# Altium footprint library ECSlib.PcbLib: 62 footprints (part 3 of 4)
Each footprint in its own frame and in the unit in brackets; x right, y up, seen from the top. Pads: shape width x height; smd on the part's side, far side on the other; paste and mask are expansions set on the pad; w line width, h text height; cw(c..) or ccw(c..) is an arc to the next point about the centre after c.
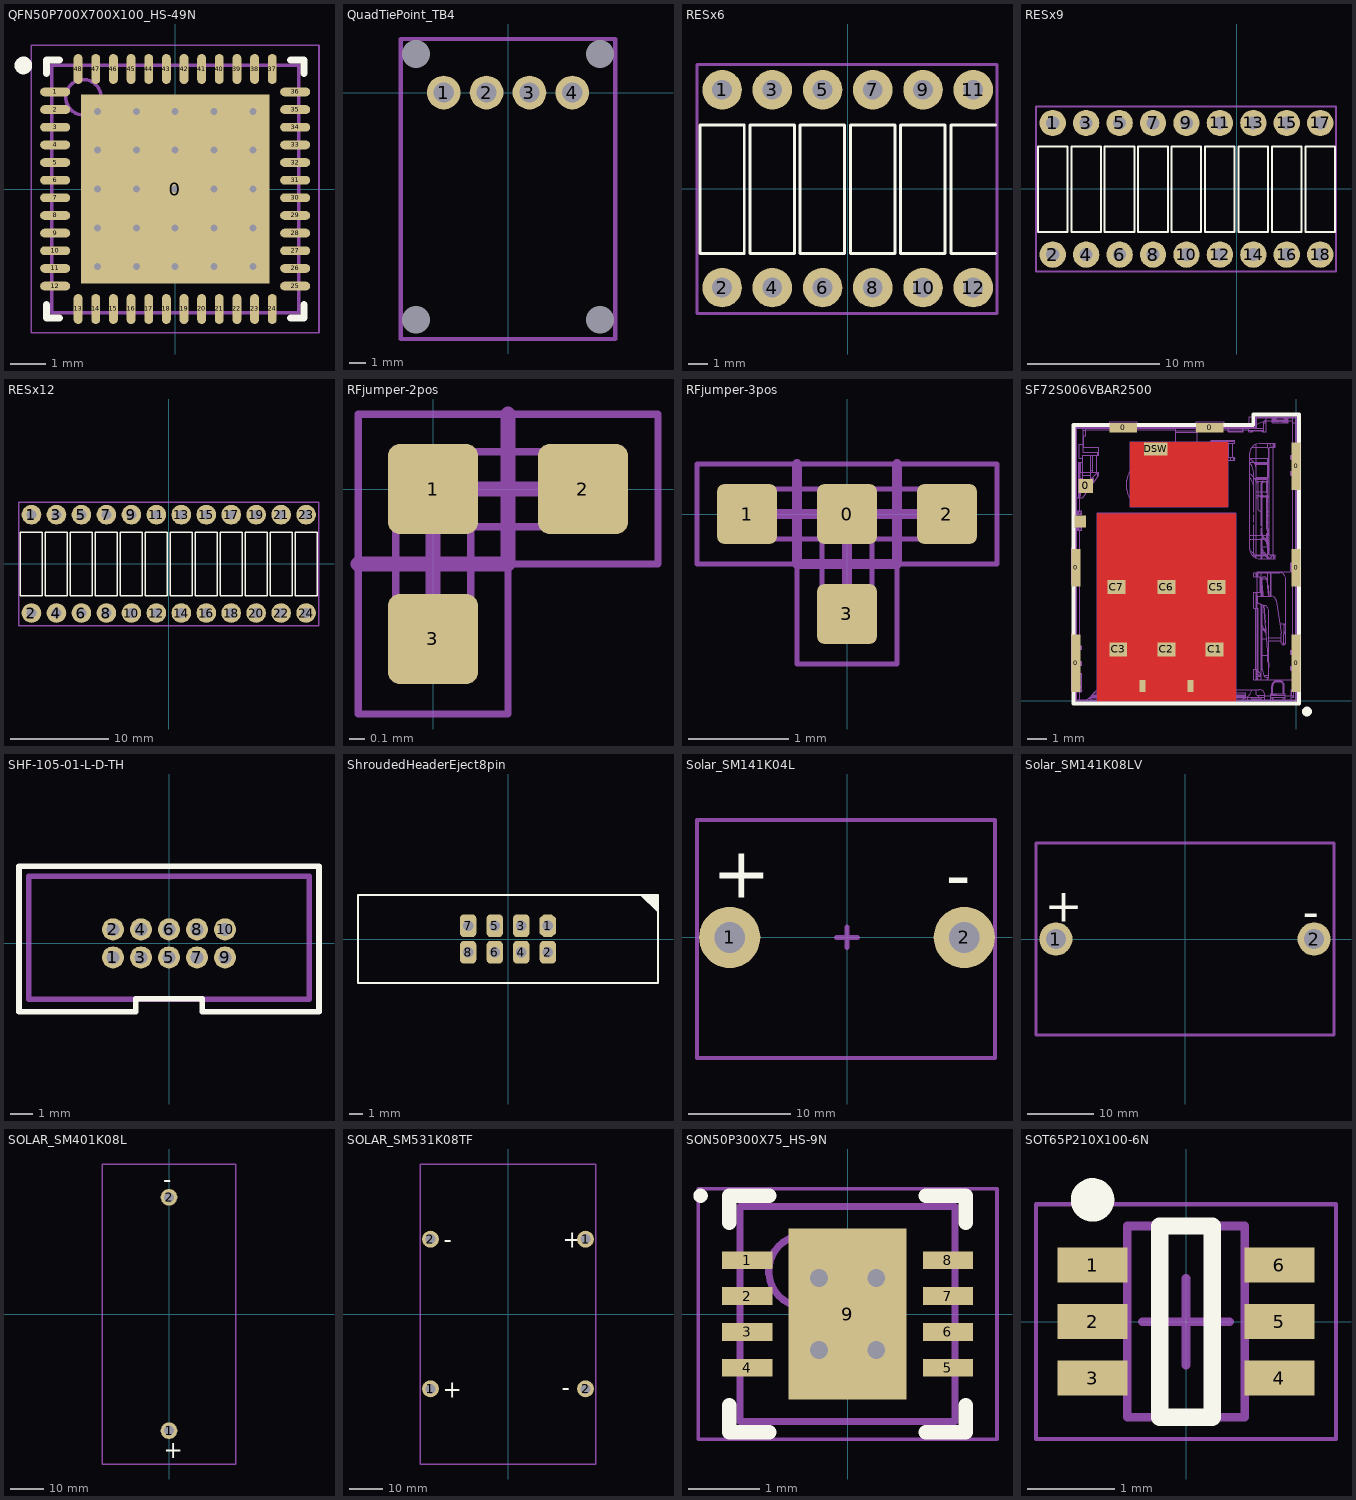
[diagram p2: the footprints below, top view; thin cyan lines are the x and y axes]

## QFN50P700X700X100_HS-49N [mm] "QFN, 48-Leads, Body 7.00x7.00mm, Pitch 0.50mm, Thermal Pad 5.35x5.35mm, IPC Medium Density"
height 1
pads (49):
  rect 5.35x5.35 smd: 0(0,0)
  oval 0.85x0.25 smd: 1(-3.4,2.75) 2(-3.4,2.25) 3(-3.4,1.75) 4(-3.4,1.25) 5(-3.4,0.75) 6(-3.4,0.25) 7(-3.4,-0.25) 8(-3.4,-0.75) 9(-3.4,-1.25) 10(-3.4,-1.75) 11(-3.4,-2.25) 12(-3.4,-2.75) 25(3.4,-2.75) 26(3.4,-2.25) 27(3.4,-1.75) 28(3.4,-1.25) 29(3.4,-0.75) 30(3.4,-0.25) 31(3.4,0.25) 32(3.4,0.75) 33(3.4,1.25) 34(3.4,1.75) 35(3.4,2.25) 36(3.4,2.75)
  oval 0.25x0.85 smd: 13(-2.75,-3.4) 14(-2.25,-3.4) 15(-1.75,-3.4) 16(-1.25,-3.4) 17(-0.75,-3.4) 18(-0.25,-3.4) 19(0.25,-3.4) 20(0.75,-3.4) 21(1.25,-3.4) 22(1.75,-3.4) 23(2.25,-3.4) 24(2.75,-3.4) 37(2.75,3.4) 38(2.25,3.4) 39(1.75,3.4) 40(1.25,3.4) 41(0.75,3.4) 42(0.25,3.4) 43(-0.25,3.4) 44(-0.75,3.4) 45(-1.25,3.4) 46(-1.75,3.4) 47(-2.25,3.4) 48(-2.75,3.4)
via 2.2,-2.2 diameter 0.5 hole 0.2
via 1.1,-2.2 diameter 0.5 hole 0.2
via 0,-2.2 diameter 0.5 hole 0.2
via -1.1,-2.2 diameter 0.5 hole 0.2
via -2.2,-2.2 diameter 0.5 hole 0.2
via 2.2,-1.1 diameter 0.5 hole 0.2
via 1.1,-1.1 diameter 0.5 hole 0.2
via 0,-1.1 diameter 0.5 hole 0.2
via -1.1,-1.1 diameter 0.5 hole 0.2
via -2.2,-1.1 diameter 0.5 hole 0.2
via 2.2,0 diameter 0.5 hole 0.2
via 1.1,0 diameter 0.5 hole 0.2
via 0,0 diameter 0.5 hole 0.2
via -1.1,0 diameter 0.5 hole 0.2
via -2.2,0 diameter 0.5 hole 0.2
via 2.2,1.1 diameter 0.5 hole 0.2
via 1.1,1.1 diameter 0.5 hole 0.2
via 0,1.1 diameter 0.5 hole 0.2
via -1.1,1.1 diameter 0.5 hole 0.2
via -2.2,1.1 diameter 0.5 hole 0.2
via 2.2,2.2 diameter 0.5 hole 0.2
via 1.1,2.2 diameter 0.5 hole 0.2
via 0,2.2 diameter 0.5 hole 0.2
via -1.1,2.2 diameter 0.5 hole 0.2
via -2.2,2.2 diameter 0.5 hole 0.2
Top Overlay:
  circle w0.25: c-4.3,3.5 r0.125
  lines w0.2: -3.65,-3.275 -3.65,-3.65 -3.275,-3.65 ; -3.65,3.275 -3.65,3.65 -3.275,3.65 ; 3.275,-3.65 3.65,-3.65 3.65,-3.275 ; 3.275,3.65 3.65,3.65 3.65,3.275
Assembly Top:
  circle w0.1: c-2.6,2.6 r0.5
  lines w0.1: -3.5,-3.5 3.5,-3.5 3.5,3.5 -3.5,3.5 -3.5,-3.5
Courtyard Top:
  lines w0.05: -4.075,-4.075 4.075,-4.075 4.075,4.075 -4.075,4.075 -4.075,-4.075
  lines w0.1: -0.5,0 0.5,0 ; 0,-0.5 0,0.5
3D body: height 1, standoff 0.08, extent -3.5,-3.5 3.5,3.5

## QuadTiePoint_TB4 [mm] "Solderless breadboard tiepoint"
pads (8):
  round 0 hole 1.65 unplated: 0(-5.461,-13.462) 0(-5.461,2.286) 0(5.461,-13.462) 0(5.461,2.286)
  round 2 hole 1.2: 1(-3.81,0) 2(-1.27,0) 3(1.27,0) 4(3.81,0)
3D Body Top:
  lines w0.25: -6.35,-14.605 -6.35,3.175 6.35,3.175 6.35,-14.605 -6.35,-14.605
3D body: height 0, standoff 0, extent 5.461,2.286 5.461,2.286
3D body: height 0, standoff 0, extent 5.461,-13.462 5.461,-13.462
3D body: height 0, standoff 0, extent -5.461,-13.462 -5.461,-13.462
3D body: height 0, standoff 0, extent -5.461,2.286 -5.461,2.286
3D body: height 8.3, standoff 0, extent -6.35,-14.605 6.35,3.175

## RESx6 [mm]
pads (12):
  round 2 hole 1: 1(-6.35,5) 2(-6.35,-5) 3(-3.81,5) 4(-3.81,-5) 5(-1.27,5) 6(-1.27,-5) 7(1.27,5) 8(1.27,-5) 9(3.81,5) 10(3.81,-5) 11(6.35,5) 12(6.35,-5)
Top Overlay:
  lines w0.15: 7.47,-3.27 5.22,-3.27 5.22,3.23 7.47,3.23 ; -7.48,-3.27 -5.23,-3.27 -5.23,3.23 -7.48,3.23 -7.48,-3.27 ; -4.94,-3.27 -2.69,-3.27 -2.69,3.23 -4.94,3.23 -4.94,-3.27 ; -2.4,-3.27 -0.15,-3.27 -0.15,3.23 -2.4,3.23 -2.4,-3.27 ; 0.14,-3.27 2.39,-3.27 2.39,3.23 0.14,3.23 0.14,-3.27 ; 2.68,-3.27 4.93,-3.27 4.93,3.23 2.68,3.23 2.68,-3.27
Mechanical 13:
  lines w0.15: -7.62,-6.3 7.55,-6.3 7.55,6.27 -7.62,6.27 -7.62,-6.3
3D body: height 4.2, standoff 0, extent -7.62,-6.3 7.64,-3.73
3D body: height 4.21, standoff 0, extent 5.6,-5.75 7.1,-4.25
3D body: height 0, standoff -2.5, extent 6.05,-5.3 6.65,-4.7
3D body: height 4.21, standoff 0, extent 3.06,-5.75 4.56,-4.25
3D body: height 0, standoff -2.5, extent 3.51,-5.3 4.11,-4.7
3D body: height 0, standoff -2.5, extent 0.97,-5.3 1.57,-4.7
3D body: height 4.21, standoff 0, extent 0.52,-5.75 2.02,-4.25
3D body: height 0, standoff -2.5, extent -1.57,-5.3 -0.97,-4.7
3D body: height 4.21, standoff 0, extent -4.56,-5.75 -3.06,-4.25
3D body: height 4.21, standoff 0, extent -2.02,-5.75 -0.52,-4.25
3D body: height 0, standoff -2.5, extent -4.11,-5.3 -3.51,-4.7
3D body: height 0, standoff -2.5, extent -6.65,-5.3 -6.05,-4.7
3D body: height 0, standoff -2.5, extent -6.65,4.7 -6.05,5.3
3D body: height 4.21, standoff 0, extent -7.1,4.25 -5.6,5.75
3D body: height 4.21, standoff 0, extent -7.1,-5.75 -5.6,-4.25
3D body: height 4.2, standoff 0, extent -7.62,3.7 7.64,6.27
3D body: height 0, standoff -2.5, extent 6.05,4.7 6.65,5.3
3D body: height 4.21, standoff 0, extent 3.06,4.25 4.56,5.75
3D body: height 0, standoff -2.5, extent 3.51,4.7 4.11,5.3
3D body: height 4.21, standoff 0, extent 5.6,4.25 7.1,5.75
3D body: height 4.21, standoff 0, extent 0.52,4.25 2.02,5.75
3D body: height 0, standoff -2.5, extent -1.57,4.7 -0.97,5.3
3D body: height 4.21, standoff 0, extent -2.02,4.25 -0.52,5.75
3D body: height 4.21, standoff 0, extent -4.56,4.25 -3.06,5.75
3D body: height 0, standoff -2.5, extent -4.11,4.7 -3.51,5.3
3D body: height 0, standoff -2.5, extent 0.97,4.7 1.57,5.3
3D body "User Library-Res40-Axial 0_25W-1K.step": height 6.91, standoff 2.5, extent -7.55,-5.4 -5.15,5.36
3D body "User Library-Res40-Axial 0_25W-1K.step": height 6.91, standoff 2.5, extent -5.01,-5.4 -2.61,5.36
3D body "User Library-Res40-Axial 0_25W-1K.step": height 6.91, standoff 2.5, extent -2.47,-5.4 -0.07,5.36
3D body "User Library-Res40-Axial 0_25W-1K.step": height 6.91, standoff 2.5, extent 0.07,-5.4 2.47,5.36
3D body "User Library-Res40-Axial 0_25W-1K.step": height 6.91, standoff 2.5, extent 2.61,-5.4 5.01,5.36
3D body "User Library-Res40-Axial 0_25W-1K.step": height 6.91, standoff 2.5, extent 5.15,-5.4 7.55,5.36

## RESx9 [mm]
pads (18):
  round 2 hole 1: 1(-13.97,5) 2(-13.97,-5) 3(-11.43,5) 4(-11.43,-5) 5(-8.89,5) 6(-8.89,-5) 7(-6.35,5) 8(-6.35,-5) 9(-3.81,5) 10(-3.81,-5) 11(-1.27,5) 12(-1.27,-5) 13(1.27,5) 14(1.27,-5) 15(3.81,5) 16(3.81,-5) 17(6.35,5) 18(6.35,-5)
Top Overlay:
  lines w0.15: -15.1,-3.27 -12.85,-3.27 -12.85,3.23 -15.1,3.23 -15.1,-3.27 ; -12.56,-3.27 -10.31,-3.27 -10.31,3.23 -12.56,3.23 -12.56,-3.27 ; -10.02,-3.27 -7.77,-3.27 -7.77,3.23 -10.02,3.23 -10.02,-3.27 ; -7.48,-3.27 -5.23,-3.27 -5.23,3.23 -7.48,3.23 -7.48,-3.27 ; -4.94,-3.27 -2.69,-3.27 -2.69,3.23 -4.94,3.23 -4.94,-3.27 ; -2.4,-3.27 -0.15,-3.27 -0.15,3.23 -2.4,3.23 -2.4,-3.27 ; 0.14,-3.27 2.39,-3.27 2.39,3.23 0.14,3.23 0.14,-3.27 ; 2.68,-3.27 4.93,-3.27 4.93,3.23 2.68,3.23 2.68,-3.27 ; 5.22,-3.27 7.47,-3.27 7.47,3.23 5.22,3.23 5.22,-3.27
Mechanical 13:
  lines w0.15: -15.24,-6.3 7.55,-6.3 7.55,6.27 -15.24,6.27 -15.24,-6.3
3D body: height 4.21, standoff 0, extent 5.6,4.25 7.1,5.75
3D body: height 0, standoff -2.5, extent 6.05,4.7 6.65,5.3
3D body: height 4.21, standoff 0, extent 3.06,-5.75 4.56,-4.25
3D body: height 0, standoff -2.5, extent 0.97,-5.3 1.57,-4.7
3D body: height 4.21, standoff 0, extent 0.52,-5.75 2.02,-4.25
3D body: height 4.21, standoff 0, extent -2.02,-5.75 -0.52,-4.25
3D body: height 0, standoff -2.5, extent -1.57,-5.3 -0.97,-4.7
3D body: height 4.21, standoff 0, extent -4.56,-5.75 -3.06,-4.25
3D body: height 0, standoff -2.5, extent -4.11,-5.3 -3.51,-4.7
3D body: height 0, standoff -2.5, extent -6.65,-5.3 -6.05,-4.7
3D body: height 4.21, standoff 0, extent -7.1,-5.75 -5.6,-4.25
3D body: height 0, standoff -2.5, extent -9.19,-5.3 -8.59,-4.7
3D body: height 4.21, standoff 0, extent -12.18,-5.75 -10.68,-4.25
3D body: height 4.21, standoff 0, extent -9.64,-5.75 -8.14,-4.25
3D body: height 0, standoff -2.5, extent -11.73,-5.3 -11.13,-4.7
3D body: height 0, standoff -2.5, extent -14.27,-5.3 -13.67,-4.7
3D body: height 0, standoff -2.5, extent -14.27,4.7 -13.67,5.3
3D body: height 4.21, standoff 0, extent -14.72,4.25 -13.22,5.75
3D body: height 4.21, standoff 0, extent -14.72,-5.75 -13.22,-4.25
3D body: height 4.21, standoff 0, extent 5.6,-5.75 7.1,-4.25
3D body: height 0, standoff -2.5, extent 6.05,-5.3 6.65,-4.7
3D body: height 0, standoff -2.5, extent 3.51,-5.3 4.11,-4.7
3D body: height 4.21, standoff 0, extent 0.52,4.25 2.02,5.75
3D body: height 0, standoff -2.5, extent -1.57,4.7 -0.97,5.3
3D body: height 0, standoff -2.5, extent 0.97,4.7 1.57,5.3
3D body: height 4.21, standoff 0, extent 3.06,4.25 4.56,5.75
3D body: height 4.21, standoff 0, extent -4.56,4.25 -3.06,5.75
3D body: height 0, standoff -2.5, extent -4.11,4.7 -3.51,5.3
3D body: height 4.21, standoff 0, extent -2.02,4.25 -0.52,5.75
3D body: height 0, standoff -2.5, extent 3.51,4.7 4.11,5.3
3D body: height 4.21, standoff 0, extent -7.1,4.25 -5.6,5.75
3D body: height 0, standoff -2.5, extent -9.19,4.7 -8.59,5.3
3D body: height 4.21, standoff 0, extent -9.64,4.25 -8.14,5.75
3D body: height 4.21, standoff 0, extent -12.18,4.25 -10.68,5.75
3D body: height 0, standoff -2.5, extent -11.73,4.7 -11.13,5.3
3D body: height 0, standoff -2.5, extent -6.65,4.7 -6.05,5.3
3D body "User Library-Res40-Axial 0_25W-1K.step": height 6.91, standoff 2.5, extent -15.17,-5.4 -12.77,5.36
3D body "User Library-Res40-Axial 0_25W-1K.step": height 6.91, standoff 2.5, extent -12.63,-5.4 -10.23,5.36
3D body "User Library-Res40-Axial 0_25W-1K.step": height 6.91, standoff 2.5, extent -10.09,-5.4 -7.69,5.36
3D body "User Library-Res40-Axial 0_25W-1K.step": height 6.91, standoff 2.5, extent -7.55,-5.4 -5.15,5.36
3D body "User Library-Res40-Axial 0_25W-1K.step": height 6.91, standoff 2.5, extent -5.01,-5.4 -2.61,5.36
3D body "User Library-Res40-Axial 0_25W-1K.step": height 6.91, standoff 2.5, extent -2.47,-5.4 -0.07,5.36
3D body "User Library-Res40-Axial 0_25W-1K.step": height 6.91, standoff 2.5, extent 0.07,-5.4 2.47,5.36
3D body "User Library-Res40-Axial 0_25W-1K.step": height 6.91, standoff 2.5, extent 2.61,-5.4 5.01,5.36
3D body: height 4.2, standoff 0, extent -15.24,-6.3 7.55,-3.73
3D body: height 4.2, standoff 0, extent -15.24,3.7 7.55,6.27
3D body "User Library-Res40-Axial 0_25W-1K.step": height 6.91, standoff 2.5, extent 5.15,-5.4 7.55,5.36

## RESx12 [mm]
pads (24):
  round 2 hole 1: 1(-13.97,5) 2(-13.97,-5) 3(-11.43,5) 4(-11.43,-5) 5(-8.89,5) 6(-8.89,-5) 7(-6.35,5) 8(-6.35,-5) 9(-3.81,5) 10(-3.81,-5) 11(-1.27,5) 12(-1.27,-5) 13(1.27,5) 14(1.27,-5) 15(3.81,5) 16(3.81,-5) 17(6.35,5) 18(6.35,-5) 19(8.89,5) 20(8.89,-5) 21(11.43,5) 22(11.43,-5) 23(13.97,5) 24(13.97,-5)
Top Overlay:
  lines w0.15: -15.1,-3.27 -12.85,-3.27 -12.85,3.23 -15.1,3.23 -15.1,-3.27 ; -12.56,-3.27 -10.31,-3.27 -10.31,3.23 -12.56,3.23 -12.56,-3.27 ; -10.02,-3.27 -7.77,-3.27 -7.77,3.23 -10.02,3.23 -10.02,-3.27 ; -7.48,-3.27 -5.23,-3.27 -5.23,3.23 -7.48,3.23 -7.48,-3.27 ; -4.94,-3.27 -2.69,-3.27 -2.69,3.23 -4.94,3.23 -4.94,-3.27 ; -2.4,-3.27 -0.15,-3.27 -0.15,3.23 -2.4,3.23 -2.4,-3.27 ; 0.14,-3.27 2.39,-3.27 2.39,3.23 0.14,3.23 0.14,-3.27 ; 2.68,-3.27 4.93,-3.27 4.93,3.23 2.68,3.23 2.68,-3.27 ; 5.22,-3.27 7.47,-3.27 7.47,3.23 5.22,3.23 5.22,-3.27 ; 7.76,-3.27 10.01,-3.27 10.01,3.23 7.76,3.23 7.76,-3.27 ; 10.3,-3.27 12.55,-3.27 12.55,3.23 10.3,3.23 10.3,-3.27 ; 12.84,-3.27 15.09,-3.27 15.09,3.23 12.84,3.23 12.84,-3.27
Mechanical 13:
  lines w0.15: -15.24,-6.3 -15.24,6.27 15.28,6.27 15.28,-6.3 -15.24,-6.3
3D body: height 4.21, standoff 0, extent 5.6,4.25 7.1,5.75
3D body: height 0, standoff -2.5, extent 6.05,4.7 6.65,5.3
3D body: height 4.21, standoff 0, extent 3.06,-5.75 4.56,-4.25
3D body: height 0, standoff -2.5, extent 0.97,-5.3 1.57,-4.7
3D body: height 4.21, standoff 0, extent 0.52,-5.75 2.02,-4.25
3D body: height 4.21, standoff 0, extent -2.02,-5.75 -0.52,-4.25
3D body: height 0, standoff -2.5, extent -1.57,-5.3 -0.97,-4.7
3D body: height 4.21, standoff 0, extent -4.56,-5.75 -3.06,-4.25
3D body: height 0, standoff -2.5, extent -4.11,-5.3 -3.51,-4.7
3D body: height 0, standoff -2.5, extent -6.65,-5.3 -6.05,-4.7
3D body: height 4.21, standoff 0, extent -7.1,-5.75 -5.6,-4.25
3D body: height 0, standoff -2.5, extent -9.19,-5.3 -8.59,-4.7
3D body: height 4.21, standoff 0, extent -12.18,-5.75 -10.68,-4.25
3D body: height 4.21, standoff 0, extent -9.64,-5.75 -8.14,-4.25
3D body: height 0, standoff -2.5, extent -11.73,-5.3 -11.13,-4.7
3D body: height 0, standoff -2.5, extent -14.27,-5.3 -13.67,-4.7
3D body: height 0, standoff -2.5, extent -14.27,4.7 -13.67,5.3
3D body: height 4.21, standoff 0, extent -14.72,4.25 -13.22,5.75
3D body: height 4.21, standoff 0, extent -14.72,-5.75 -13.22,-4.25
3D body: height 4.21, standoff 0, extent 5.6,-5.75 7.1,-4.25
3D body: height 0, standoff -2.5, extent 6.05,-5.3 6.65,-4.7
3D body: height 0, standoff -2.5, extent 3.51,-5.3 4.11,-4.7
3D body: height 4.21, standoff 0, extent 0.52,4.25 2.02,5.75
3D body: height 0, standoff -2.5, extent -1.57,4.7 -0.97,5.3
3D body: height 0, standoff -2.5, extent 0.97,4.7 1.57,5.3
3D body: height 4.21, standoff 0, extent 3.06,4.25 4.56,5.75
3D body: height 4.21, standoff 0, extent -4.56,4.25 -3.06,5.75
3D body: height 0, standoff -2.5, extent -4.11,4.7 -3.51,5.3
3D body: height 4.21, standoff 0, extent -2.02,4.25 -0.52,5.75
3D body: height 0, standoff -2.5, extent 3.51,4.7 4.11,5.3
3D body: height 4.21, standoff 0, extent -7.1,4.25 -5.6,5.75
3D body: height 0, standoff -2.5, extent -9.19,4.7 -8.59,5.3
3D body: height 4.21, standoff 0, extent -9.64,4.25 -8.14,5.75
3D body: height 4.21, standoff 0, extent -12.18,4.25 -10.68,5.75
3D body: height 0, standoff -2.5, extent -11.73,4.7 -11.13,5.3
3D body: height 0, standoff -2.5, extent -6.65,4.7 -6.05,5.3
3D body "User Library-Res40-Axial 0_25W-1K.step": height 6.91, standoff 2.5, extent -15.17,-5.4 -12.77,5.36
3D body "User Library-Res40-Axial 0_25W-1K.step": height 6.91, standoff 2.5, extent -12.63,-5.4 -10.23,5.36
3D body "User Library-Res40-Axial 0_25W-1K.step": height 6.91, standoff 2.5, extent -10.09,-5.4 -7.69,5.36
3D body "User Library-Res40-Axial 0_25W-1K.step": height 6.91, standoff 2.5, extent -7.55,-5.4 -5.15,5.36
3D body "User Library-Res40-Axial 0_25W-1K.step": height 6.91, standoff 2.5, extent -5.01,-5.4 -2.61,5.36
3D body "User Library-Res40-Axial 0_25W-1K.step": height 6.91, standoff 2.5, extent -2.47,-5.4 -0.07,5.36
3D body "User Library-Res40-Axial 0_25W-1K.step": height 6.91, standoff 2.5, extent 0.07,-5.4 2.47,5.36
3D body "User Library-Res40-Axial 0_25W-1K.step": height 6.91, standoff 2.5, extent 2.61,-5.4 5.01,5.36
3D body: height 4.2, standoff 0, extent -15.24,-6.3 15.28,-3.73
3D body: height 4.2, standoff 0, extent -15.24,3.7 15.28,6.27
3D body: height 0, standoff -2.5, extent 11.13,4.7 11.73,5.3
3D body: height 0, standoff -2.5, extent 13.67,-5.3 14.27,-4.7
3D body: height 4.21, standoff 0, extent 10.68,-5.75 12.18,-4.25
3D body: height 4.21, standoff 0, extent 13.22,-5.75 14.72,-4.25
3D body: height 0, standoff -2.5, extent 8.59,-5.3 9.19,-4.7
3D body: height 4.21, standoff 0, extent 8.14,-5.75 9.64,-4.25
3D body: height 0, standoff -2.5, extent 11.13,-5.3 11.73,-4.7
3D body: height 4.21, standoff 0, extent 13.22,4.25 14.72,5.75
3D body: height 4.21, standoff 0, extent 8.14,4.25 9.64,5.75
3D body: height 4.21, standoff 0, extent 10.68,4.25 12.18,5.75
3D body: height 0, standoff -2.5, extent 8.59,4.7 9.19,5.3
3D body: height 0, standoff -2.5, extent 13.67,4.7 14.27,5.3
3D body "User Library-Res40-Axial 0_25W-1K.step": height 6.91, standoff 2.5, extent 5.15,-5.4 7.55,5.36
3D body "User Library-Res40-Axial 0_25W-1K.step": height 6.91, standoff 2.5, extent 7.69,-5.4 10.09,5.36
3D body "User Library-Res40-Axial 0_25W-1K.step": height 6.91, standoff 2.5, extent 10.23,-5.4 12.63,5.36
3D body "User Library-Res40-Axial 0_25W-1K.step": height 6.91, standoff 2.5, extent 12.77,-5.4 15.17,5.36

## RFjumper-2pos [mm]
pads (3):
  rrect25% 0.6x0.6 smd: 1(0,0) 2(1,0) 3(0,-1)
Mechanical 13:
  lines w0.05: -0.25,-0.75 -0.25,-1 ; -0.25,-0.25 -0.25,0 ; 0.25,-0.75 0.25,-1 ; 0.25,0.25 0,0.25 ; 0.75,-0.25 1,-0.25 ; 0.75,0.25 1,0.25 ; -0.25,-1 0.25,-1 ; -0.25,-1 0.25,-1 ; -0.25,-1 -0.25,0 ; -0.25,0 0.25,0 ; -0.25,0 0.25,0 ; 0,-0.25 0,0.25 ; 0,-0.25 1,-0.25 ; 0,-0.25 0.25,-0.25 0.25,0 ; 0,-0.25 0,0.25 ; 0,0.25 1,0.25 ; 0.25,-1 0.25,0 ; 1,-0.25 1,0.25 ; 1,-0.25 1,0.25
Mechanical 15:
  lines w0.05: -0.5,0.5 1.5,0.5 1.5,-0.5 -0.5,-0.5 -0.5,0.5 ; -0.5,0.5 -0.5,-1.5 0.5,-1.5 0.5,0.5 -0.5,0.5
  lines w0.1: -0.5,-0.5 0.5,-0.5 0.5,0.5 ; 0,-1 0,0 1,0
3D body: height 0.5, standoff 0, extent 0.25,-0.249 0.751,0.25
3D body: height 0.5, standoff 0, extent 0,-0.249 0.249,0.249
3D body: height 0.5, standoff 0, extent 0.751,-0.25 1,0.25
3D body: height 0.5, standoff 0, extent -0.25,-1 0.25,-0.751
3D body: height 0.5, standoff 0, extent -0.249,-0.249 0.249,0
3D body: height 0.5, standoff 0, extent -0.249,-0.751 0.25,-0.25

## RFjumper-3pos [mm]
pads (4):
  rrect25% 0.6x0.6 smd: 0(0,0) 1(-1,0) 2(1,0) 3(0,-1)
Mechanical 13:
  lines w0.05: -1.25,-0.25 -1.25,0 ; -0.75,0.25 -1,0.25 ; -0.25,-0.75 -0.25,-1 ; -0.25,0.25 0,0.25 ; 0.25,-0.75 0.25,-1 ; 0.25,0.25 0,0.25 ; 0.75,-0.25 1,-0.25 ; 0.75,0.25 1,0.25 ; -1.25,0 -0.75,0 ; -1.25,0 -0.75,0 ; -1,-0.25 -1,0.25 ; -1,-0.25 -0.75,-0.25 -0.75,0 ; -1,-0.25 0,-0.25 ; -1,-0.25 -1,0.25 ; -1,0.25 0,0.25 ; -0.25,-1 0.25,-1 ; -0.25,-1 0.25,-1 ; -0.25,-1 -0.25,0 ; -0.25,0 0.25,0 ; -0.25,0 -0.25,-0.25 0,-0.25 ; -0.25,0 0.25,0 ; 0,-0.25 0,0.25 ; 0,-0.25 1,-0.25 ; 0,-0.25 0.25,-0.25 0.25,0 ; 0,-0.25 0,0.25 ; 0,-0.25 0,0.25 ; 0,-0.25 0,0.25 ; 0,0.25 1,0.25 ; 0.25,-1 0.25,0 ; 1,-0.25 1,0.25 ; 1,-0.25 1,0.25
Mechanical 15:
  lines w0.05: -1.5,0.5 -0.5,0.5 ; -1.5,0.5 -1.5,-0.5 0.5,-0.5 0.5,0.5 ; -1.5,0.5 0.5,0.5 ; -0.5,0.5 1.5,0.5 1.5,-0.5 -0.5,-0.5 -0.5,0.5 ; -0.5,0.5 -0.5,-1.5 0.5,-1.5 0.5,0.5 ; -0.5,0.5 0.5,0.5
  lines w0.1: -1,0 0,0 ; -0.5,0.5 -0.5,-0.5 0.5,-0.5 0.5,0.5 ; 0,-1 0,0 ; 1,0 0,0
3D body: height 0.5, standoff 0, extent 0.25,-0.249 0.751,0.25
3D body: height 0.5, standoff 0, extent 0,-0.249 0.249,0.249
3D body: height 0.5, standoff 0, extent 0.751,-0.25 1,0.25
3D body: height 0.5, standoff 0, extent -0.25,-1 0.25,-0.751
3D body: height 0.5, standoff 0, extent -0.249,-0.249 0.249,0
3D body: height 0.5, standoff 0, extent -0.249,-0.751 0.25,-0.25
3D body: height 0.5, standoff 0, extent -1.249,-0.249 -0.751,0
3D body: height 0.5, standoff 0, extent -0.249,-0.25 0,0.25
3D body: height 0.5, standoff 0, extent -1,-0.249 -0.751,0.249
3D body: height 0.5, standoff 0, extent -0.75,-0.249 -0.249,0.25

## SF72S006VBAR2500 [mm]
pads (18):
  rect 0.45x2.9 smd: 0(-11.175,1.9) 0(0,1.9)
  rect 0.45x1.9 smd: 0(-11.175,6.75) 0(0,6.75)
  rect 0.75x0.7 smd: 0(-10.675,10.9)
  rect 1.4x0.5 smd: 0(-8.78,13.85) 0(-4.38,13.85)
  rect 0.3x0.6 smd: 0(-7.8,0.75) 0(-5.36,0.75)
  rect 0.45x2.4 smd: 0(0,11.9)
  rect 0.9x0.7 smd: C1(-4.14,2.6) C2(-6.58,2.6) C3(-9.02,2.6) C5(-4.04,5.77) C6(-6.58,5.77) C7(-9.12,5.77)
  rect 0.6x0.6 smd: CSW(-10.95,9.1)
  rect 1.2x0.65 smd: DSW(-7.13,12.775)
Top Layer:
  pour cut-out: -10.084,9.5 -3.073,9.5 -3.073,-0.025 -10.084,-0.025
  pour cut-out: -8.407,13.106 -3.48,13.106 -3.48,9.855 -8.407,9.855
Top Overlay:
  lines w0.2: -11.3,-0.15 -11.3,14 -2.175,14 -2.175,14.525 0.15,14.525 0.15,-0.15 -11.3,-0.15
  lines w0.25: 0.443,-0.486 ccw(c0.55,-0.55) 0.462,-0.462
3D Body Bottom:
  drawing of 1191 lines, arcs and shapes, not listed
  text ".Designator" at -6.214,5.15 h0.38
Mechanical 13:
  text "card side" at -10.922,-2.413 h1.27
Mechanical 15:
  lines w0.1: -11.175,0 0,0 0,14.375 -2.025,14.375 -2.025,13.85 -11.175,13.85 -11.175,0 ; -10.08,0 -10.08,9.5 -3.08,9.5 -3.08,0 -10.08,0 ; -8.4,9.85 -3.48,9.85 -3.48,13.1 -8.4,13.1 -8.4,9.85
  text "NO VIA / NO TRACE" at -8.382,10.668 h0.55
  text "NO VIA / NO TRACE" at -9.144,7.366 h0.55
3D body "K3D-SF72S006VBA-V2_JAE_Proprietary.STEP": height 1.25, standoff 0, extent -11.2,0.05 0.02,14.4
3D body: height 1.02, standoff 0.25, extent -10.033,-0.762 -3.048,0.635

## SHF-105-01-L-D-TH [mm]
pads (10):
  round 1 hole 0.6: 1(-2.54,-0.635) 2(-2.54,0.635) 3(-1.27,-0.635) 4(-1.27,0.635) 5(0,-0.635) 6(0,0.635) 7(1.27,-0.635) 8(1.27,0.635) 9(2.54,-0.635) 10(2.54,0.635)
Top Overlay:
  lines w0.25: -6.8,-3.1 -1.5,-3.1 -1.5,-2.5 1.5,-2.5 1.5,-3.1 6.8,-3.1 6.8,3.5 -6.8,3.5 -6.8,-3.1
3D Body Top:
  lines w0.25: -6.35,-2.54 -6.35,3.048 6.35,3.048 6.35,-2.54 -6.35,-2.54
3D body "SHF-105-01-L-D-TH-TR.stp": height 5.33, standoff -1.91, extent -6.35,-2.54 6.35,3.048

## ShroudedHeaderEject8pin [mm]
pads (8):
  oct 1.219x1.727 hole 0.8: 1(3,1)
  rrect50% 1.219x1.727 hole 0.8: 2(3,-1) 3(1,1) 4(1,-1) 5(-1,1) 6(-1,-1) 7(-3,1) 8(-3,-1)
Top Overlay:
  region: 11.275,2 11.275,3.3 9.975,3.3
  lines w0.15: -11.3,-3.3 11.3,-3.3 11.3,3.3 -11.3,3.3 -11.3,-3.3
3D body "10078991-Gx2-08.stp": height 11.8, standoff -2.8, extent -11,-3 11,3
3D body: height 0.25, standoff 0, extent 1.2,5.3 1.2,5.3

## Solar_SM141K04L [mm] "Solar Panel 29mmx23mm"
pads (2):
  round 6 hole 3: 1(-11.5,0) 2(11.5,0)
Top Overlay:
  text "+" at -13.2,3.9 h5
  text "-" at 9.7,3.7 h5
Bottom Overlay:
  text "+" at -9.9,3.9 h5
  text "-" at 13,3.7 h5
Mechanical 13:
  lines w0.4: -14.7,-11.8 -14.7,11.5 14.5,11.5 14.5,-11.8 -14.7,-11.8
Mechanical 15:
  lines w0.5: -1,0 1,0 ; 0,-1 0,1
3D body: height 1.8, standoff 0, extent -14.5,-11.5 14.5,11.5

## Solar_SM141K08LV [mm] "Solar Panel 45mmx29mm"
pads (2):
  round 5 hole 3: 1(-19.5,0) 2(19.5,0)
Top Overlay:
  text "+" at -21.2,2.6 h5
  text "-" at 17.8,1.7 h5
Bottom Overlay:
  text "+" at -17.9,2.6 h5
  text "-" at 21.1,1.7 h5
Mechanical 13:
  lines w0.4: -22.5,-14.5 -22.5,14.5 22.5,14.5 22.5,-14.5 -22.5,-14.5
3D body: height 1.8, standoff 0, extent -22.5,-14.5 22.5,14.5

## SOLAR_SM401K08L [mm] "Solar Panel 89mmx52mm"
pads (2):
  round 5 hole 3: 1(0,-35) 2(0,35)
Top Overlay:
  text "+" at -1.6,-43.2 h5
  text "-" at -1.7,37.9 h5
Bottom Overlay:
  text "+" at -1.6,-43.2 h5
  text "-" at -1.7,37.9 h5
Mechanical 13:
  lines w0.4: -20,-45 -20,45 20,45 20,-45 -20,-45
3D body: height 1.8, standoff 0, extent -20,-45 20,45

## SOLAR_SM531K08TF [mm] "Solar Panel 89mmx52mm"
pads (4):
  round 5 hole 3: 1(-23,-22.2) 1(23,22.2) 2(-23,22.2) 2(23,-22.2)
Top Overlay:
  text "-" at 16,-24.3 h5
  text "+" at -19.4,-24.9 h5
  text "+" at 16.3,19.7 h5
  text "-" at -19,19.7 h5
Bottom Overlay:
  text "-" at 16,-24.3 h5
  text "+" at -19.4,-24.9 h5
  text "+" at 16.3,19.7 h5
  text "-" at -19,19.7 h5
Mechanical 13:
  lines w0.4: -26,-44.5 -26,44.5 26,44.5 26,-44.5 -26,-44.5
3D body: height 1.8, standoff 0, extent -26,-44.5 26,44.5

## SON50P300X75_HS-9N [mm] "SON, 8-Leads, Body 3.00x3.00mm, Pitch 0.50mm, Thermal Pad 2.38x1.58mm, IPC Medium Density"
height 0.75
pads (9):
  rect 0.7x0.25 smd mask+0: 1(-1.4,0.75) 2(-1.4,0.25) 3(-1.4,-0.25) 4(-1.4,-0.75) 5(1.4,-0.75) 6(1.4,-0.25) 7(1.4,0.25) 8(1.4,0.75)
  rect 1.65x2.38 smd mask+0: 9(0,0)
via -0.4,0.5 diameter 0.8 hole 0.25
via 0.4,0.5 diameter 0.8 hole 0.25
via -0.4,-0.5 diameter 0.8 hole 0.25
via 0.4,-0.5 diameter 0.8 hole 0.25
Top Overlay:
  circle w0.1: c-2.05,1.65 r0.05
  lines w0.2: -1.65,-1.275 -1.65,-1.65 -1.09,-1.65 ; -1.65,1.275 -1.65,1.65 -1.09,1.65 ; 1.09,-1.65 1.65,-1.65 1.65,-1.275 ; 1.09,1.65 1.65,1.65 1.65,1.275
Assembly Top:
  circle w0.1: c-0.6,0.6 r0.5
  lines w0.1: -1.5,-1.5 -1.5,1.5 1.5,1.5 1.5,-1.5 -1.5,-1.5
Courtyard Top:
  lines w0.05: -2.085,-1.75 -2.085,1.75 2.085,1.75 2.085,-1.75 -2.085,-1.75
  lines w0.1: -0.5,0 0.5,0 ; 0,-0.5 0,0.5
3D body: height 0.75, standoff 0, extent -1.5,-1.5 1.5,1.5

## SOT65P210X100-6N [mm] "SOT23, 6-Leads, Body 2.00x2.10mm, Pitch 0.65mm, IPC Medium Density"
height 1
pads (6):
  rect 0.8x0.4 smd: 1(-1.075,0.65) 2(-1.075,0) 3(-1.075,-0.65) 4(1.075,-0.65) 5(1.075,0) 6(1.075,0.65)
Top Overlay:
  circle w0.25: c-1.075,1.4 r0.125
  lines w0.2: -0.3,-1.1 0.3,-1.1 0.3,1.1 -0.3,1.1 -0.3,-1.1
Assembly Top:
  lines w0.1: -0.675,-1.1 -0.675,1.1 0.675,1.1 0.675,-1.1 -0.675,-1.1
Courtyard Top:
  lines w0.05: -1.725,-1.35 -1.725,1.35 1.725,1.35 1.725,-1.35 -1.725,-1.35
  lines w0.1: -0.5,0 0.5,0 ; 0,-0.5 0,0.5
3D body: height 1, standoff 0, extent -0.675,-1.1 0.675,1.1